# Altium footprint library Passive_comp.PcbLib: 15 footprints
Each footprint in its own frame and in the unit in brackets; x right, y up, seen from the top. Pads: shape width x height; smd on the part's side, far side on the other; paste and mask are expansions set on the pad; w line width, h text height; cw(c..) or ccw(c..) is an arc to the next point about the centre after c.
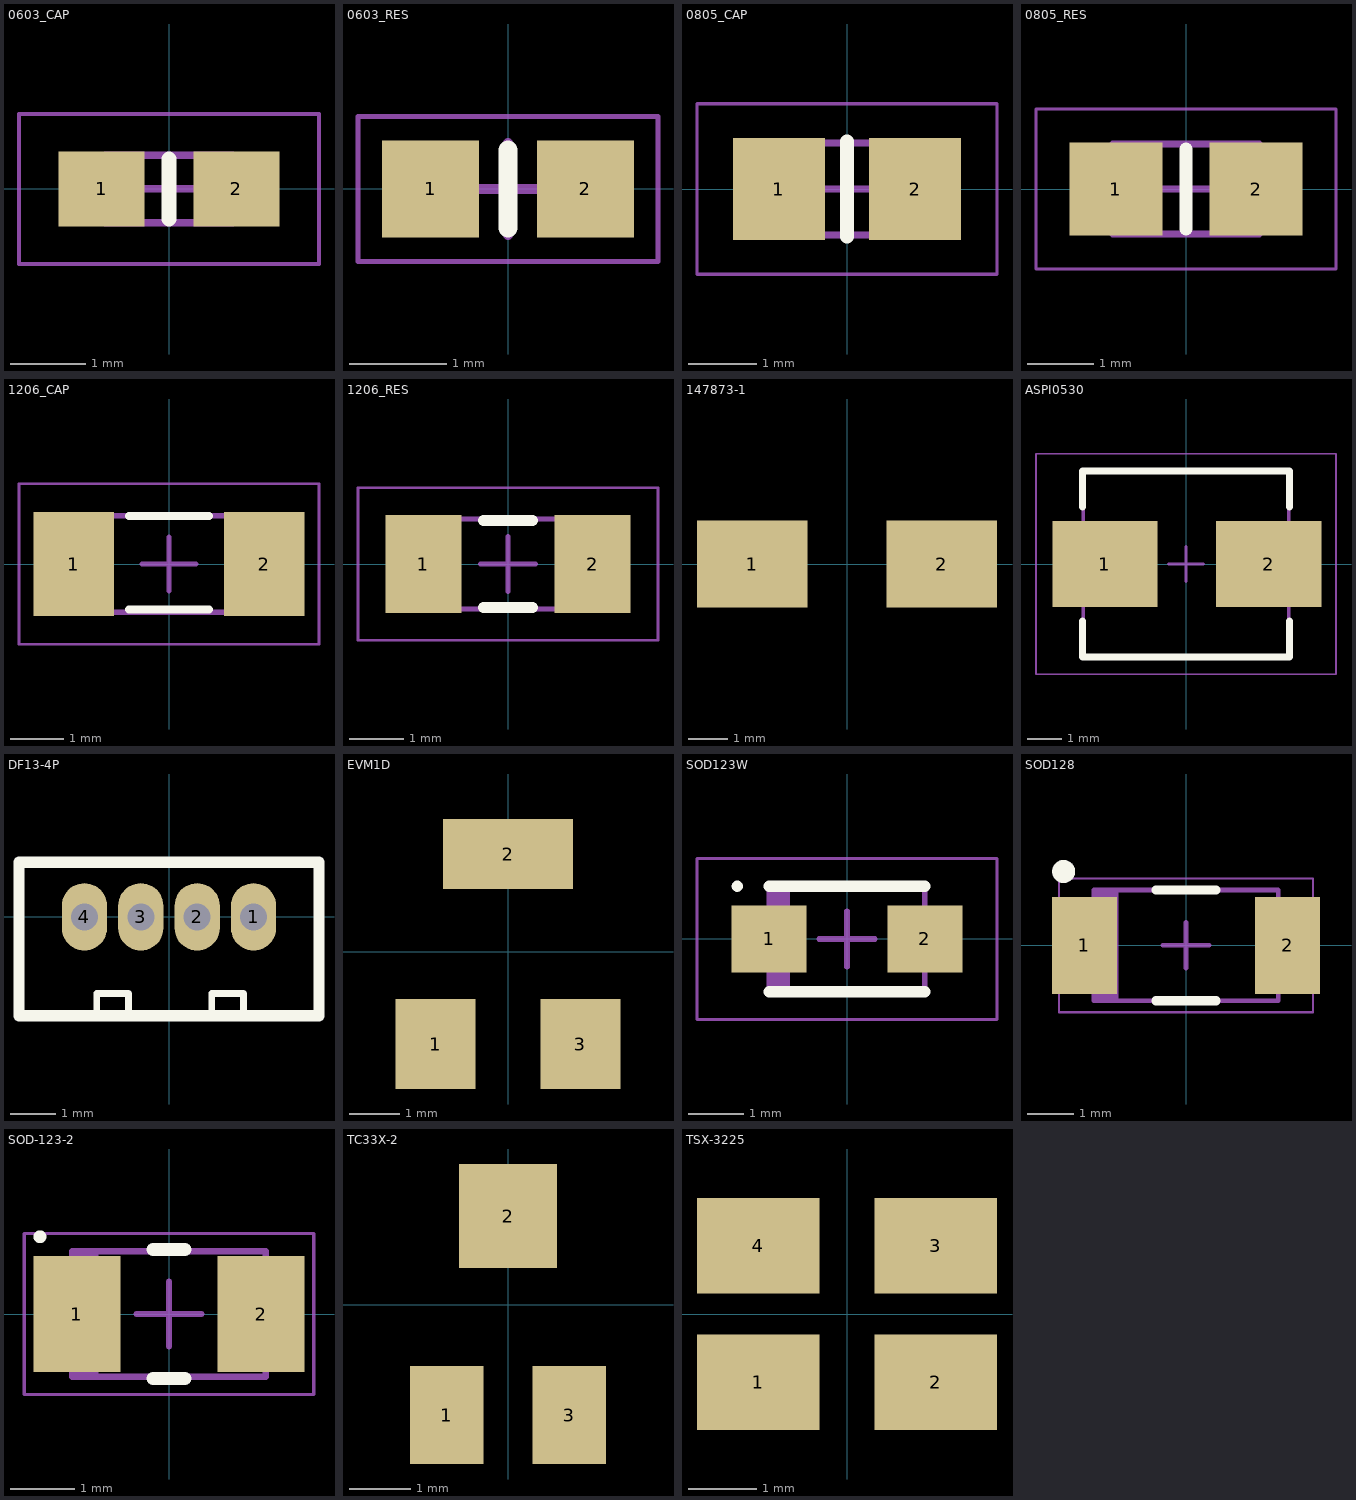
[diagram p0: the footprints below, top view; thin cyan lines are the x and y axes]

## 0603_CAP [mm] "Chip Capacitor, 2-Leads, Body 1,60x0,80mm, IPC Low Density"
height 0.9
pads (2):
  rect 1.15x1 smd: 1(-0.9,0) 2(0.9,0)
Top Overlay:
  lines w0.2: 0,-0.4 0,0.4
Mechanical 13:
  lines w0.1: -0.85,-0.45 0.85,-0.45 0.85,0.45 -0.85,0.45 -0.85,-0.45
Mechanical 15:
  lines w0.05: -2,-1 2,-1 2,1 -2,1 -2,-1
  lines w0.1: -0.45,0 0.45,0 ; 0,-0.45 0,0.45
3D body "User Library-0603 SMD Capacitor.step": height 0.3, standoff 0, extent -0.8,-0.4 0.8,0.4

## 0603_RES [mm] "Chip Resistor, 2-Leads, Body 1,57x0,85mm, IPC Medium Density"
height 0.45
pads (2):
  rect 1x1 smd: 1(-0.8,0) 2(0.8,0)
Top Overlay:
  lines w0.2: 0,-0.4 0,0.4
Mechanical 15:
  lines w0.05: -1.55,-0.75 -1.55,0.75 1.55,0.75 1.55,-0.75 -1.55,-0.75
  lines w0.1: -0.475,0 0.475,0 ; 0,-0.475 0,0.475
3D body "User Library-0603 SMD Resitor.step": height 0.45, standoff 0, extent -0.85,-0.42 0.75,0.43

## 0805_CAP [mm] "Chip Capacitor, 2-Leads, Body 2,00x1,25mm, IPC Low Density"
height 1.25
pads (2):
  rect 1.35x1.5 smd: 1(-1,0) 2(1,0)
Top Overlay:
  lines w0.2: 0,-0.7 0,0.7
Mechanical 13:
  lines w0.1: -1.05,-0.675 1.05,-0.675 1.05,0.675 -1.05,0.675 -1.05,-0.675
Mechanical 15:
  lines w0.05: -2.2,-1.25 2.2,-1.25 2.2,1.25 -2.2,1.25 -2.2,-1.25
  lines w0.1: -0.5,0 0.5,0 ; 0,-0.5 0,0.5
3D body "User Library-0805 SMD Capacitor.step": height 0.78, standoff 0, extent -1,-0.625 1,0.625

## 0805_RES [mm] "Chip Resistor, 2-Leads, Body 2,00x1,25mm, IPC Low Density"
height 0.7
pads (2):
  rect 1.4x1.4 smd: 1(-1.05,0) 2(1.05,0)
Top Overlay:
  lines w0.2: 0,-0.6 0,0.6
Mechanical 13:
  lines w0.1: -1.1,-0.675 -1.1,0.675 1.1,0.675 1.1,-0.675 -1.1,-0.675
Mechanical 15:
  lines w0.05: -2.25,-1.2 -2.25,1.2 2.25,1.2 2.25,-1.2 -2.25,-1.2
  lines w0.1: -0.5,0 0.5,0 ; 0,-0.5 0,0.5
3D body "User Library-0805 SMD Resistor.step": height 0.77, standoff -0.01, extent -1,-0.625 1,0.625

## 1206_CAP [mm] "Chip Capacitor, 2-Leads, Body 3,20x1,60mm, IPC Low Density"
height 1.8
pads (2):
  rect 1.5x1.95 smd: 1(-1.775,0) 2(1.775,0)
Top Overlay:
  lines w0.15: -0.75,-0.85 0.75,-0.85 ; -0.75,0.9 0.75,0.9
Mechanical 13:
  lines w0.1: -1.7,-0.9 1.7,-0.9 1.7,0.9 -1.7,0.9
Mechanical 15:
  lines w0.05: -2.8,-1.5 -2.8,1.5 2.8,1.5 2.8,-1.5 -2.8,-1.5
  lines w0.1: -0.5,0 0.5,0 ; 0,-0.5 0,0.5
3D body "User Library-cap_1206-1.step": height 1.6, standoff 0, extent -1.6,-0.8 1.6,0.8

## 1206_RES [mm] "Chip Resistor, 2-Leads, Body 3,13x1,55mm, IPC Low Density"
height 0.7
pads (2):
  rect 1.4x1.8 smd: 1(-1.55,0) 2(1.55,0)
Top Overlay:
  lines w0.2: -0.45,-0.8 0.45,-0.8 ; -0.45,0.8 0.45,0.8
Mechanical 13:
  lines w0.1: -1.625,-0.825 -1.625,0.825 1.625,0.825 1.625,-0.825 -1.625,-0.825
Mechanical 15:
  lines w0.05: -2.75,-1.4 -2.75,1.4 2.75,1.4 2.75,-1.4 -2.75,-1.4
  lines w0.1: -0.5,0 0.5,0 ; 0,-0.5 0,0.5
3D body "User Library-1206 SMD Resistor.step": height 1, standoff 0, extent -1.6,-0.8 1.6,0.8

## 147873-1 [mm] "SPST TE Conectivity push button"
height 5
pads (2):
  rect 2.8x2.2 smd: 1(-2.4,0) 2(2.4,0)
3D body: height 5, standoff 0, extent -3,-1.75 3,1.75

## ASPI0530 [mm] "Precision Wire Wound Inductor, 2-Leads, Body 5,60x5,20mm, IPC Low Density"
height 3
pads (2):
  rect 3.05x2.5 smd: 1(-2.35,0) 2(2.4,0)
Top Overlay:
  lines w0.2: -3,-1.65 -3,-2.7 3,-2.7 3,-1.65 ; -3,1.65 -3,2.7 3,2.7 3,1.65
Mechanical 13:
  lines w0.1: -2.975,-2.7 -2.975,2.7 2.975,2.7 2.975,-2.7 -2.975,-2.7
Mechanical 15:
  lines w0.05: -4.35,-3.2 -4.35,3.2 4.35,3.2 4.35,-3.2 -4.35,-3.2
  lines w0.1: -0.5,0 0.5,0 ; 0,-0.5 0,0.5
3D body: height 3, standoff 0, extent -2.975,-2.7 2.975,2.7

## DF13-4P [mm]
pads (4):
  oval 1x1.5 hole 0.6 mask+0.05: 1(1.875,0) 2(0.625,0) 3(-0.625,0) 4(-1.875,0)
Top Overlay:
  lines w0.15: -1.6,-2.19 -1.6,-1.7 -0.9,-1.7 -0.9,-2.19 ; 0.95,-2.19 0.95,-1.7 1.65,-1.7 1.65,-2.19
  lines w0.254: -3.325,-2.19 -3.325,1.21 0.04,1.21 2.115,1.21 3.325,1.21 3.325,-2.19 -3.325,-2.19
3D body "DF13-4P-1.25DSA.stp": height 4.37, standoff -2.23, extent -3.3,-2.2 3.35,1.2

## EVM1D [mm]
pads (3):
  rect 1.6x1.8 smd: 1(-1.45,-1.85) 3(1.45,-1.85)
  rect 2.6x1.4 smd: 2(0,1.95)

## SOD123W [mm] "Molded Diode, 2-Leads, Body 2,60x1,70mm, IPC Low Density"
height 1.1
pads (2):
  rect 1.35x1.2 smd: 1(-1.4,0) 2(1.4,0)
Top Overlay:
  circle w0.1: c-1.975,0.95 r0.05
  lines w0.2: -1.4,-0.95 1.4,-0.95 ; -1.4,0.95 1.4,0.95
Mechanical 13:
  rectangle: -1.4,-0.95 -1.023,0.95
  lines w0.1: -1.4,-0.95 1.4,-0.95 1.4,0.95 -1.4,0.95 -1.4,-0.95
Mechanical 15:
  lines w0.05: -2.7,-1.45 2.7,-1.45 2.7,1.45 -2.7,1.45 -2.7,-1.45
  lines w0.1: -0.5,0 0.5,0 ; 0,-0.5 0,0.5
3D body: height 1.1, standoff 0, extent -1.4,-0.95 1.4,0.95

## SOD128 [mm] "Molded Diode, 2-Leads, Body 3,80x2,35mm, IPC Medium Density"
height 1.1
pads (2):
  rect 1.4x2.1 smd: 1(-2.2,0) 2(2.2,0)
Top Overlay:
  circle w0.25: c-2.65,1.6 r0.125
  lines w0.2: -0.65,-1.2 0.65,-1.2 ; -0.65,1.2 0.65,1.2
Mechanical 13:
  rectangle: -2,-1.2 -1.462,1.2
  lines w0.1: -2,-1.2 -2,1.2 2,1.2 2,-1.2 -2,-1.2
Mechanical 15:
  lines w0.05: -2.75,-1.45 -2.75,1.45 2.75,1.45 2.75,-1.45 -2.75,-1.45
  lines w0.1: -0.5,0 0.5,0 ; 0,-0.5 0,0.5
3D body "User Library-SOD-128 ST214 model.step": height 1.11, standoff 0, extent -2.6,-1.3 2.6,1.4

## SOD-123-2 [mm] "Molded Diode, 2-Leads, Body 2,75x1,72mm, IPC Medium Density"
height 1.08
pads (2):
  rect 1.35x1.8 smd: 1(-1.43,0) 2(1.43,0)
Top Overlay:
  circle w0.1: c-2.005,1.2 r0.05
  lines w0.2: -0.25,-1 0.25,-1 ; -0.25,1 0.25,1
Mechanical 13:
  rectangle: -1.5,-0.975 -1.097,0.975
  lines w0.1: -1.5,-0.975 -1.5,0.975 1.5,0.975 1.5,-0.975 -1.5,-0.975
Mechanical 15:
  lines w0.05: -2.25,-1.25 -2.25,1.25 2.25,1.25 2.25,-1.25 -2.25,-1.25
  lines w0.1: -0.5,0 0.5,0 ; 0,-0.5 0,0.5
3D body: height 1.08, standoff 0, extent -1.5,-0.975 1.5,0.975

## TC33X-2 [mm]
pads (3):
  rect 1.2x1.6 smd: 1(-1,-1.8) 3(1,-1.8)
  rect 1.6x1.7 smd: 2(0,1.45)
3D body "3313j-1-204e.stp": height 2.1, standoff -0.03, extent -1.651,-1.876 1.651,1.629

## TSX-3225 [mm]
pads (4):
  rect 1.8x1.4 smd: 1(-1.3,-1) 2(1.3,-1) 3(1.3,1) 4(-1.3,1)
3D body "User Library-tsx-3225.step": height 0.6, standoff 0, extent -1.6,-1.25 1.6,1.25